# Altium schematic symbol library CL10C150JB8NNNC.SchLib: 1 symbol
Pins are listed as number, name and electrical type; pins without a type are passive.

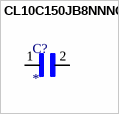
[diagram p0: symbol CL10C150JB8NNNC]

## CL10C150JB8NNNC
designator C?
Capacitor: ceramic; MLCC; 15pF; 50V; C0G; Â±5%; SMD; 0603; MP: CL10C150JB8NNNC; Package: None; Price: None; Value: *; Availability: Unavailable
pins: 1, 2